# EAGLE library part TCM8230MD (library modular_robotics)
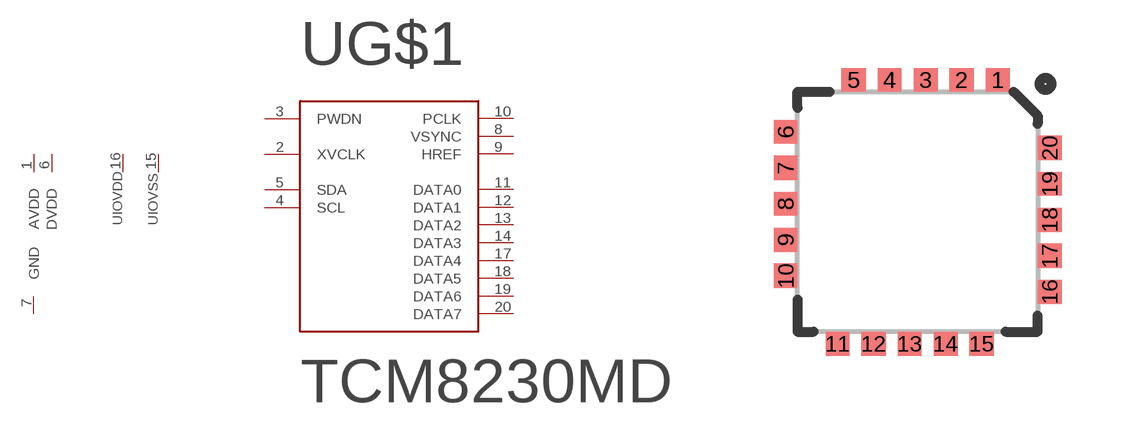
[diagram p6: symbol with the pads of TCM-20; footprint TCM-20]

Designator prefix -; gates G$1=CAMERA G$2=GND-AVDD-DVDD IOVDD=VREF IOVSS=VREF

## TCM8230MD  [TCM-20]
1  G$2:AVDD  pwr
2  G$1:XVCLK
3  G$1:PWDN
4  G$1:SCL
5  G$1:SDA
6  G$2:DVDD  pwr
7  G$2:GND  pwr
8  G$1:VSYNC
9  G$1:HREF
10  G$1:PCLK
11  G$1:DATA0
12  G$1:DATA1
13  G$1:DATA2
14  G$1:DATA3
15  IOVSS:V  pwr
16  IOVDD:V  pwr
17  G$1:DATA4
18  G$1:DATA5
19  G$1:DATA6
20  G$1:DATA7

## Footprint TCM-20 (pad centres in mm)
smd 0.6 x 0.6: 1 2,3.3; 2 1.1,3.3; 3 0.2,3.3; 4 -0.7,3.3; 5 -1.6,3.3; 6 -3.3,2; 7 -3.3,1.1; 8 -3.3,0.2; 9 -3.3,-0.7; 10 -3.3,-1.6; 11 -2,-3.3; 12 -1.1,-3.3; 13 -0.2,-3.3; 14 0.7,-3.3; 15 1.6,-3.3; 16 3.3,-2; 17 3.3,-1.1; 18 3.3,-0.2; 19 3.3,0.7; 20 3.3,1.6